# EAGLE library part LSM9DS1 (library SparkFun-Sensors)
ST Microelectronics LSM9DS1 9DOF IMU - Accelerometer, Gyroscope & Magnetometer The LSM9DS1 is a versatile, motion-sensing system-in-a-chip. It houses a 3-axis accelerometer, 3-axis gyroscope, and 3-axis magnetometer – nine degrees of freedom (9DOF) in a single IC! The LSM9DS1 is equipped with a digital interface, but even that is flexible: it supports both I2C and SPI, so you’ll be hard-pressed to find a microcontroller it doesn’t work with. Datasheet <https://cdn.sparkfun.com/assets/learn_tutorials/3/7/3/LSM9DS1_Datasheet.pdf> SparkFun Products SparkFun 9 Degrees of Freedom IMU Breakout - LSM9DS1 <https://www.sparkfun.com/products/13284> (SEN-13284) SparkFun Photon IMU Shield <https://www.sparkfun.com/products/13629> (DEV-13629)
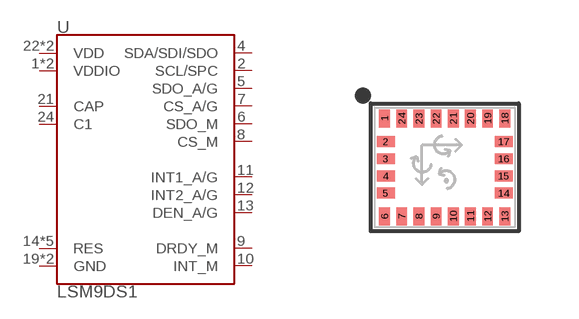
[diagram p18: symbol with the pads of LGA-24-3.5X3; footprint LGA-24-3.5X3]

Designator prefix U

## LSM9DS1 (PROD_ID: IC-12536)  [LGA-24-3.5X3]
1  VDDIO
2  SCL/SPC
3  VDDIO
4  SDA/SDI/SDO
5  SDO_A/G
6  SDO_M
7  CS_A/G
8  CS_M
9  DRDY_M
10  INT_M
11  INT1_A/G
12  INT2_A/G
13  DEN_A/G
14  RES
15  RES
16  RES
17  RES
18  RES
19  GND
20  GND
21  CAP
22  VDD
23  VDD
24  C1

## Footprint LGA-24-3.5X3 (pad centres in mm)
24-pin LGA (3.5 x 3 mm) Datasheet <https://cdn.sparkfun.com/assets/learn_tutorials/3/7/3/LSM9DS1_Datasheet.pdf> Specifications: Pin Count: 24 Area: 3.5 x 3.0 mm Pitch: 0.43 mm Devices Using: LSM9DS1
smd 0.27 x 0.45: 1 -1.505,1.225; 6 -1.505,-1.225; 7 -1.075,-1.225; 8 -0.645,-1.225; 9 -0.215,-1.225; 10 0.215,-1.225; 11 0.645,-1.225; 12 1.075,-1.225; 13 1.505,-1.225; 18 1.505,1.225; 19 1.075,1.225; 20 0.645,1.225; 21 0.215,1.225; 22 -0.215,1.225; 23 -0.645,1.225; 24 -1.075,1.225
smd 0.45 x 0.27: 2 -1.475,0.645; 3 -1.475,0.215; 4 -1.475,-0.215; 5 -1.475,-0.645; 14 1.475,-0.645; 15 1.475,-0.215; 16 1.475,0.215; 17 1.475,0.645